# EAGLE library part BASICATOM40-M (library basicmicro)
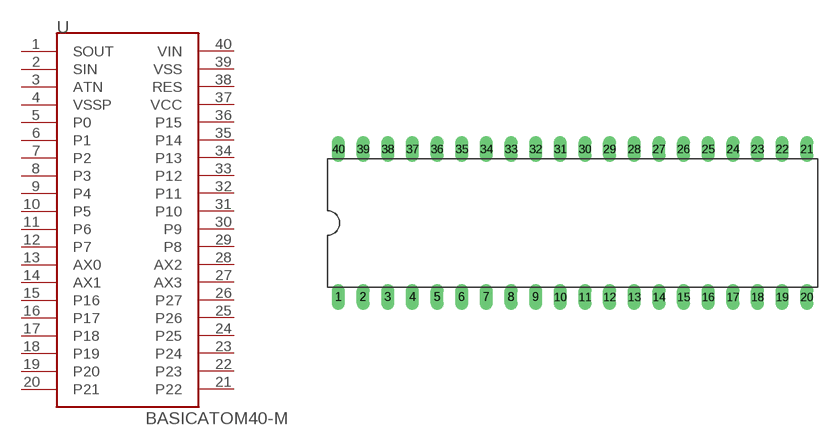
[diagram p3: symbol with the pads of DIP40; footprint DIP40]

Designator prefix -

## BASICATOM40-M  [DIP40]
1  SOUT
2  SIN
3  ATN
4  VSSP
5  P0
6  P1
7  P2
8  P3
9  P4
10  P5
11  P6
12  P7
13  AX0
14  AX1
15  P16
16  P17
17  P18
18  P19
19  P20
20  P21
21  P22
22  P23
23  P24
24  P25
25  P26
26  P27
27  AX3
28  AX2
29  P8
30  P9
31  P10
32  P11
33  P12
34  P13
35  P14
36  P15
37  VCC  pwr
38  RES  pwr
39  VSS  pwr
40  VIN  pwr

## Footprint DIP40 (pad centres in mm)
drill 0.813 long: 1 -24.13,-7.62; 2 -21.59,-7.62; 3 -19.05,-7.62; 4 -16.51,-7.62; 5 -13.97,-7.62; 6 -11.43,-7.62; 7 -8.89,-7.62; 8 -6.35,-7.62; 9 -3.81,-7.62; 10 -1.27,-7.62; 11 1.27,-7.62; 12 3.81,-7.62; 13 6.35,-7.62; 14 8.89,-7.62; 15 11.43,-7.62; 16 13.97,-7.62; 17 16.51,-7.62; 18 19.05,-7.62; 19 21.59,-7.62; 20 24.13,-7.62; 21 24.13,7.62; 22 21.59,7.62; 23 19.05,7.62; 24 16.51,7.62; 25 13.97,7.62; 26 11.43,7.62; 27 8.89,7.62; 28 6.35,7.62; 29 3.81,7.62; 30 1.27,7.62; 31 -1.27,7.62; 32 -3.81,7.62; 33 -6.35,7.62; 34 -8.89,7.62; 35 -11.43,7.62; 36 -13.97,7.62; 37 -16.51,7.62; 38 -19.05,7.62; 39 -21.59,7.62; 40 -24.13,7.62